# Altium footprint library TC1602A-01T.PcbLib: 1 footprints
Each footprint in its own frame and in the unit in brackets; x right, y up, seen from the top. Pads: shape width x height; smd on the part's side, far side on the other; paste and mask are expansions set on the pad; w line width, h text height; cw(c..) or ccw(c..) is an arc to the next point about the centre after c.
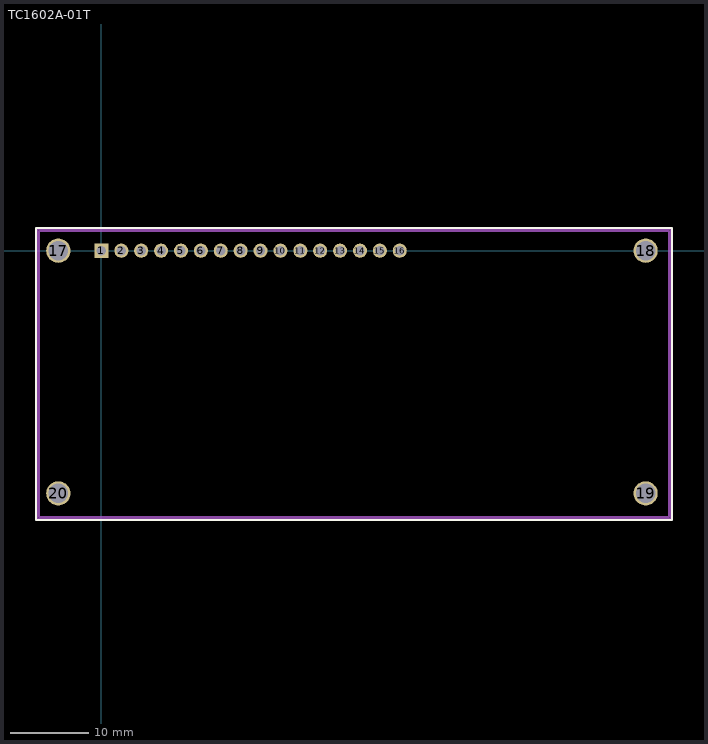
[diagram p0: the footprint, top view; thin cyan lines are the x and y axes]

## TC1602A-01T [mm]
pads (20):
  rect 1.8x1.8 hole 1.2: 1(0,0)
  round 1.8 hole 1.2: 2(2.54,0) 3(5.08,0) 4(7.62,0) 5(10.16,0) 6(12.7,0) 7(15.24,0) 8(17.78,0) 9(20.32,0) 10(22.86,0) 11(25.4,0) 12(27.94,0) 13(30.48,0) 14(33.02,0) 15(35.56,0) 16(38.1,0)
  round 3.1 hole 2.5: 17(-5.5,0) 18(69.5,0) 19(69.5,-31) 20(-5.5,-31)
Top Overlay:
  lines w0.254: -8.382,-34.417 -8.382,2.921 72.898,2.921 72.898,-34.417 -8.382,-34.417
Mechanical 1:
  lines w0.254: -8,-34 72.5,-34 72.5,2.5 -8,2.5 -8,-34
  text ".Designator" at 24.765,-17.526 h1.52
Mechanical 15:
  lines w0.254: -8.255,-34.29 -8.255,2.794 72.771,2.794 72.771,-34.29 -8.255,-34.29
3D body: height 13.5, standoff 4.1, extent -1.016,-27.813 63.373,-5.588
3D body: height 4.1, standoff 2.5, extent -8,-34 72.5,2.5